# Altium schematic symbol library 100068622_ideal_diode.SchLib: 3 symbols
Pins are listed as number, name and electrical type; pins without a type are passive.

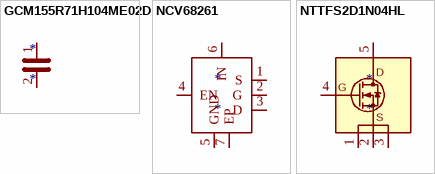
[diagram p0: symbols GCM155R71H104ME02D to NTTFS2D1N04HL]

## GCM155R71H104ME02D
designator *
pins: 1, 2

## NCV68261
designator *
pins: 1 S, 2 G, 3 D, 4 EN, 5 GND, 6 IN, 7 EP

## NTTFS2D1N04HL
designator *
pins: 1 S, 2 S, 3 S, 4 G, 5 D